# Altium footprint library FLoRa0.0.PcbLib: 42 footprints (part 2 of 3)
Each footprint in its own frame and in the unit in brackets; x right, y up, seen from the top. Pads: shape width x height; smd on the part's side, far side on the other; paste and mask are expansions set on the pad; w line width, h text height; cw(c..) or ccw(c..) is an arc to the next point about the centre after c.
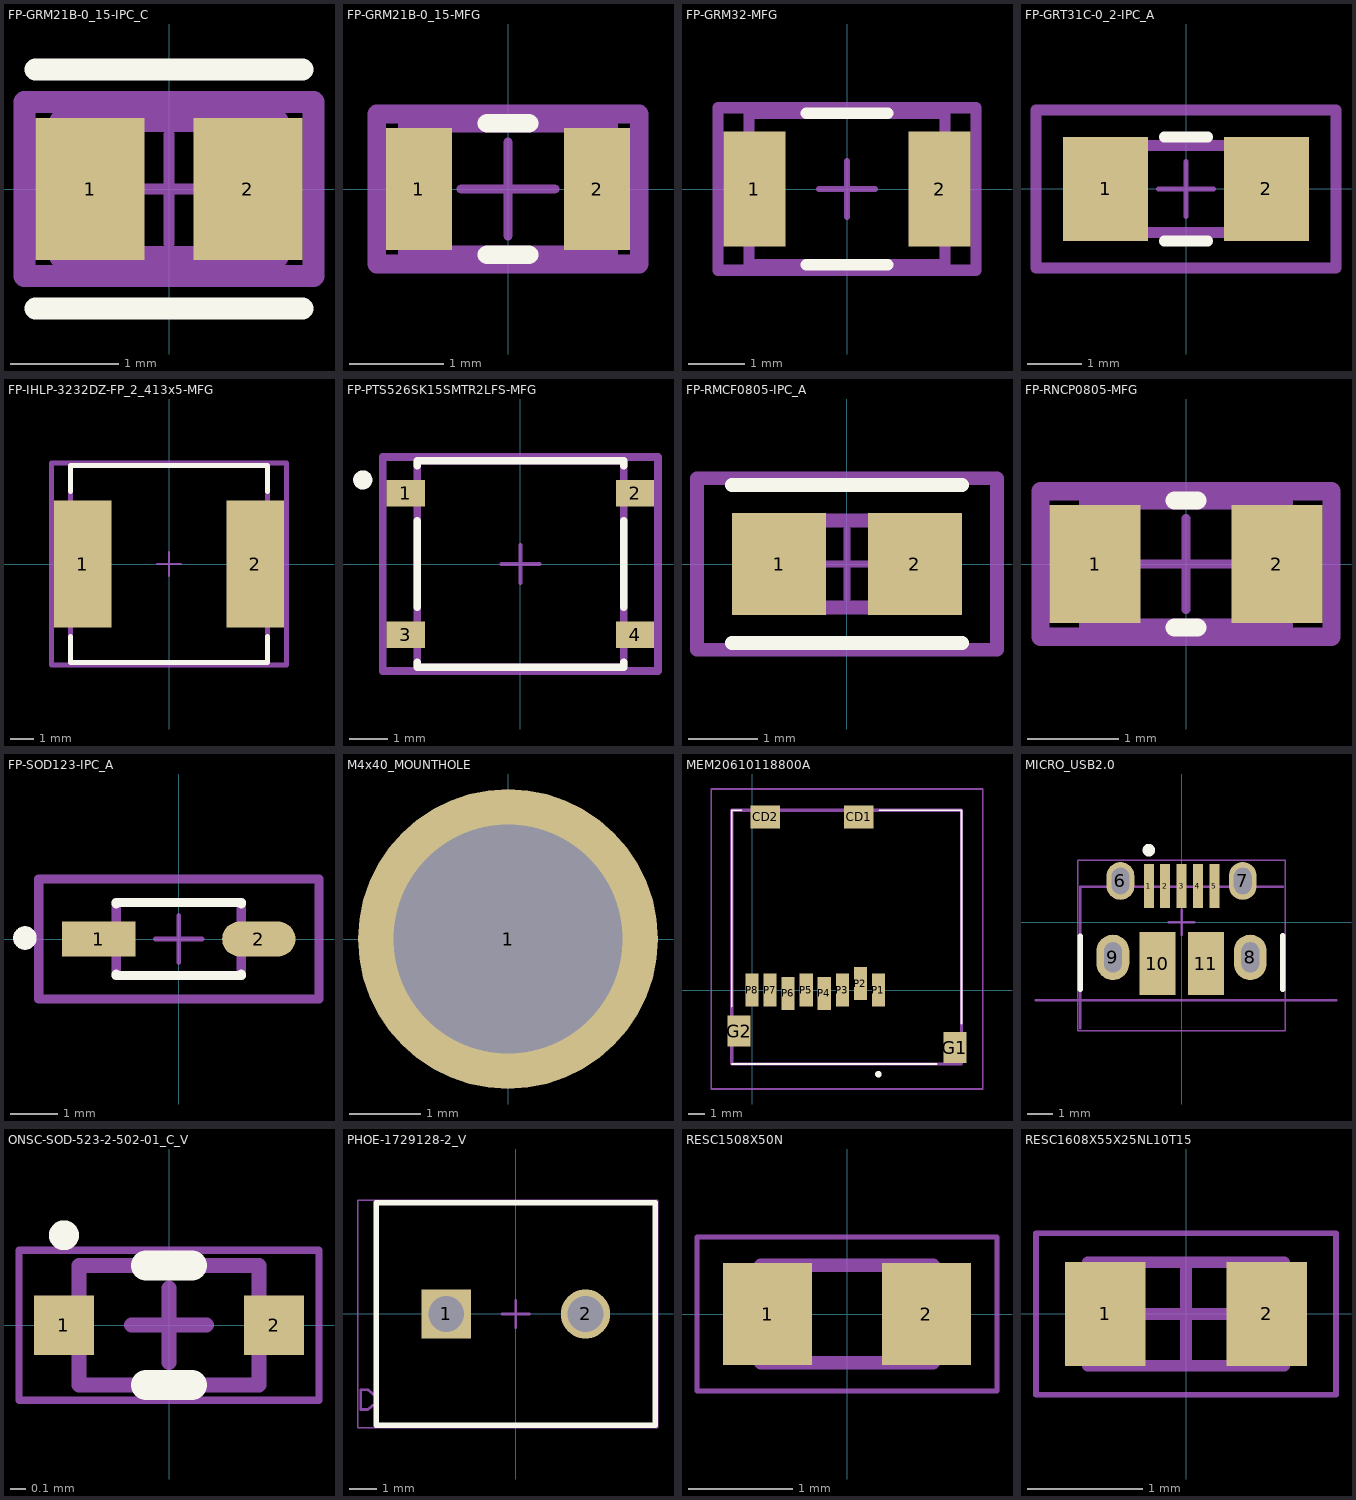
[diagram p1: the footprints below, top view; thin cyan lines are the x and y axes]

## FP-GRM21B-0_15-IPC_C [mm]
pads (2):
  rect 1.006x1.308 smd paste+0 mask+0: 1(-0.726,0) 2(0.726,0)
Top Overlay:
  lines w0.2: -1.229,-1.1 1.229,-1.1 ; -1.229,1.1 1.229,1.1
Top 3D Body:
  lines w0.2: -1,-0.625 -1,0.625 1,0.625 1,-0.625 -1,-0.625
Top Component Center:
  lines w0.1: -0.5,0 0.5,0 ; 0,-0.5 0,0.5
Top Assembly:
  lines w0.2: -1.329,-0.8 -1.329,0.8 1.329,0.8 1.329,-0.8 -1.329,-0.8
  text ".Designator" at 0,0.191 h1.02
Top Courtyard:
  lines w0.2: -1.329,-0.8 -1.329,0.8 1.329,0.8 1.329,-0.8 -1.329,-0.8
3D body "Cap_Murata_GRM21BC81C106KA73L_eec.STEP": height 0.25, standoff 0, extent -1.329,-0.8 1.329,0.8

## FP-GRM21B-0_15-MFG [mm]
pads (2):
  rect 0.7x1.3 smd paste+0 mask+0: 1(-0.95,0) 2(0.95,0)
Top Overlay:
  lines w0.2: -0.225,-0.7 0.225,-0.7 ; -0.225,0.7 0.225,0.7
Top 3D Body:
  lines w0.2: -1.075,-0.7 1.075,-0.7 1.075,0.7 -1.075,0.7 -1.075,-0.7
Top Component Center:
  lines w0.1: -0.5,0 0.5,0 ; 0,-0.5 0,0.5
Top Assembly:
  lines w0.2: -1.4,-0.8 1.4,-0.8 1.4,0.8 -1.4,0.8 -1.4,-0.8
  text ".Designator" at 0,0.191 h1.02
Top Courtyard:
  lines w0.2: -1.4,-0.8 1.4,-0.8 1.4,0.8 -1.4,0.8 -1.4,-0.8
3D body "Cap_Murata_GRM21BC81C106KA73L_eec.STEP": height 0.25, standoff 0, extent -1.4,-0.8 1.4,0.8

## FP-GRM32-MFG [mm]
pads (2):
  rect 1.1x2.05 smd paste+0 mask+0: 1(-1.65,0) 2(1.65,0)
Top Overlay:
  lines w0.2: -0.725,-1.35 0.725,-1.35 ; -0.725,1.35 0.725,1.35
Top 3D Body:
  lines w0.2: -1.75,-1.35 -1.75,1.35 1.75,1.35 1.75,-1.35 -1.75,-1.35
Top Component Center:
  lines w0.1: -0.5,0 0.5,0 ; 0,-0.5 0,0.5
Top Assembly:
  lines w0.2: -2.3,-1.45 -2.3,1.45 2.3,1.45 2.3,-1.45 -2.3,-1.45
Top Courtyard:
  lines w0.2: -2.3,-1.45 -2.3,1.45 2.3,1.45 2.3,-1.45 -2.3,-1.45
3D body "Cap_Murata_GRM32ER71A476ME15L_eec.STEP": height 0.25, standoff 0, extent -2.3,-1.45 2.3,1.45

## FP-GRT31C-0_2-IPC_A [mm]
pads (2):
  rect 1.555x1.906 smd paste+0 mask+0: 1(-1.476,0) 2(1.476,0)
Top Overlay:
  lines w0.2: -0.398,-0.953 0.398,-0.953 ; -0.398,0.953 0.398,0.953
Top 3D Body:
  lines w0.2: -1.6,-0.8 -1.6,0.8 1.6,0.8 1.6,-0.8 -1.6,-0.8
Top Component Center:
  lines w0.1: -0.5,0 0.5,0 ; 0,-0.5 0,0.5
Top Assembly:
  lines w0.2: -2.753,-1.453 -2.753,1.453 2.753,1.453 2.753,-1.453 -2.753,-1.453
  text ".Designator" at 0,0.191 h1.02
Top Courtyard:
  lines w0.2: -2.753,-1.453 -2.753,1.453 2.753,1.453 2.753,-1.453 -2.753,-1.453
3D body "Cap_Murata_GRT31CC80J476KE13L_eec.STEP": height 0.25, standoff 0, extent -2.753,-1.453 2.753,1.453

## FP-IHLP-3232DZ-FP_2_413x5-MFG [mil]
pads (2):
  rect 95x210 smd paste+0 mask+0: 1(-142.5,0) 2(142.5,0)
Top Overlay:
  lines w7.87: -162.52,-119.76 -162.52,-162.52 162.52,-162.52 162.52,-119.76 ; -162.52,119.76 -162.52,162.52 162.52,162.52 162.52,119.76
Top 3D Body:
  lines w7.87: -162.52,-162.52 -162.52,162.52 162.52,162.52 162.52,-162.52 -162.52,-162.52
Top Component Center:
  lines w3.94: -19.68,0 19.68,0 ; 0,-19.68 0,19.68
Top Assembly:
  lines w7.87: -193.94,-166.46 -193.94,166.46 193.94,166.46 193.94,-166.46 -193.94,-166.46
  text ".Designator" at 0,7.51 h40
Top Courtyard:
  lines w7.87: -193.94,-166.46 -193.94,166.46 193.94,166.46 193.94,-166.46 -193.94,-166.46
3D body "Ind_Vishay_IHLP3232DZER4R7M11_eec.STEP": height 10, standoff 0, extent -193.94,-166.46 193.94,166.46

## FP-PTS526SK15SMTR2LFS-MFG [mm]
pads (4):
  rect 1x0.7 smd paste+0 mask+0: 1(-3,1.85) 2(3,1.85) 3(-3,-1.85) 4(3,-1.85)
Top Overlay:
  circle w0.25: c-4.125,2.2 r0.125
  lines w0.2: -2.7,-2.575 -2.7,-2.7 2.7,-2.7 2.7,-2.575 ; -2.7,-1.125 -2.7,1.125 ; -2.7,2.575 -2.7,2.7 2.7,2.7 2.7,2.575 ; 2.7,-1.125 2.7,1.125
Top 3D Body:
  lines w0.2: -2.7,-2.7 2.7,-2.7 2.7,2.7 -2.7,2.7 -2.7,-2.7
Top Component Center:
  lines w0.1: -0.5,0 0.5,0 ; 0,-0.5 0,0.5
Top Assembly:
  lines w0.2: -3.6,-2.8 3.6,-2.8 3.6,2.8 -3.6,2.8 -3.6,-2.8
  text ".Designator" at 0,0.191 h1.02
Top Courtyard:
  lines w0.2: -3.6,-2.8 3.6,-2.8 3.6,2.8 -3.6,2.8 -3.6,-2.8
3D body "Switch_C&K_PTS526SK15SMTR2LFS_eec.STEP": height 0.25, standoff 0, extent -3.6,-2.8 3.6,2.8

## FP-RMCF0805-IPC_A [mm]
pads (2):
  rect 1.355x1.462 smd paste+0 mask+0: 1(-0.976,0) 2(0.976,0)
Top Overlay:
  lines w0.2: -1.653,-1.131 1.653,-1.131 ; -1.653,1.131 1.653,1.131
Top 3D Body:
  lines w0.2: -1,-0.625 -1,0.625 1,0.625 1,-0.625 -1,-0.625
Top Component Center:
  lines w0.1: -0.5,0 0.5,0 ; 0,-0.5 0,0.5
Top Assembly:
  lines w0.2: -2.153,-1.231 -2.153,1.231 2.153,1.231 2.153,-1.231 -2.153,-1.231
  text ".Designator" at 0,0.191 h1.02
Top Courtyard:
  lines w0.2: -2.153,-1.231 -2.153,1.231 2.153,1.231 2.153,-1.231 -2.153,-1.231
3D body "Res_Stackpole_Electronics_RMCF0805JT220K_eec.STEP": height 0.25, standoff 0, extent -2.153,-1.231 2.153,1.231

## FP-RNCP0805-MFG [mm]
pads (2):
  rect 1x1.3 smd paste+0 mask+0: 1(-1,0) 2(1,0)
Top Overlay:
  lines w0.2: -0.125,-0.7 0.125,-0.7 ; -0.125,0.7 0.125,0.7
Top 3D Body:
  lines w0.2: -1.075,-0.7 1.075,-0.7 1.075,0.7 -1.075,0.7 -1.075,-0.7
Top Component Center:
  lines w0.1: -0.5,0 0.5,0 ; 0,-0.5 0,0.5
Top Assembly:
  lines w0.2: -1.6,-0.8 1.6,-0.8 1.6,0.8 -1.6,0.8 -1.6,-0.8
  text ".Designator" at 0,0.191 h1.02
Top Courtyard:
  lines w0.2: -1.6,-0.8 1.6,-0.8 1.6,0.8 -1.6,0.8 -1.6,-0.8
3D body "Res_Stackpole_Electronics_RNCP0805FTD499R_eec.STEP": height 0.25, standoff 0, extent -1.6,-0.8 1.6,0.8

## FP-SOD123-IPC_A [mm]
pads (2):
  rect 1.557x0.742 smd paste+0 mask+0: 1(-1.7,0)
  rrect100% 1.557x0.742 smd paste+0 mask+0: 2(1.7,0)
Top Overlay:
  circle w0.25: c-3.27,0.021 r0.125
  lines w0.2: -1.325,-0.746 -1.325,-0.775 1.325,-0.775 1.325,-0.746 ; -1.325,0.746 -1.325,0.775 1.325,0.775 1.325,0.746
Top 3D Body:
  lines w0.2: -1.325,-0.775 -1.325,0.775 1.325,0.775 1.325,-0.775 -1.325,-0.775
Top Component Center:
  lines w0.1: -0.5,0 0.5,0 ; 0,-0.5 0,0.5
Top Assembly:
  lines w0.2: -2.979,-1.275 -2.979,1.275 2.979,1.275 2.979,-1.275 -2.979,-1.275
  text ".Designator" at 0,0.191 h1.02
Top Courtyard:
  lines w0.2: -2.979,-1.275 -2.979,1.275 2.979,1.275 2.979,-1.275 -2.979,-1.275
3D body "Diode_Diodes_Inc_MMSZ5245B-7-F_eec.STEP": height 0.25, standoff 0, extent -2.979,-1.275 2.979,1.275

## M4x40_MOUNTHOLE [mm] "Mounhole for m4 screw"
pads (1):
  round 4.2 hole 3.2: 1(0,0)

## MEM20610118800A [mm]
pads (12):
  rect 1.8x1.4 smd: CD1(6.51,10.55) CD2(0.81,10.55)
  rect 1.4x1.9 smd: G1(12.36,-3.5) G2(-0.79,-2.5)
  rect 0.8x2 smd: P1(7.7,0) P2(6.6,0.4) P3(5.5,0) P4(4.4,-0.2) P5(3.3,0) P6(2.2,-0.2) P7(1.1,0) P8(0,0)
Top Overlay:
  lines w0.1: -1.24,-4.5 11.26,-4.5 ; -1.24,-1.025 -1.24,10.95 -0.64,10.95 ; 7.76,10.95 12.76,10.95 12.76,-2.032
  lines w0.2: 7.7,-5.225 ccw(c7.7,-5.125) 7.7,-5.025 ccw(c7.7,-5.125) 7.7,-5.225
Top Courtyard:
  lines w0.2: -1.24,-4.5 -1.24,10.95 12.76,10.95 12.76,-4.5 -1.24,-4.5
Mechanical 20:
  lines w0.1: -2.49,-6.025 14.06,-6.025 14.06,12.25 -2.49,12.25 -2.49,-6.025

## MICRO_USB2.0 [mm] "SMD, 5-Leads, Body 8.04x5.62mm, Pitch 0.65 mm"
height 3.24
pads (11):
  rect 0.4x1.75 smd: 1(-1.3,1.435) 2(-0.65,1.435) 3(0,1.435) 4(0.65,1.435) 5(1.3,1.435)
  oval 1.1x1.5 hole 0.7 slot 1.05 at 90 deg: 6(-2.425,1.64) 7(2.425,1.64)
  oval 1.3x1.8 hole 0.7 slot 1.2 at 90 deg: 8(2.725,-1.39) 9(-2.725,-1.39)
  rect 1.425x2.5 smd: 10(-0.962,-1.64) 11(0.962,-1.64)
Top Overlay:
  circle w0.25: c-1.3,2.86 r0.125
  lines w0.2: -4.02,-2.659 -4.02,-0.54 ; 4.013,-2.659 4.013,-0.527
Mechanical 1:
  lines w0.1: -5.775,-3.09 6.125,-3.09
  text "PCB Edge" at 4.425,-2.83 h0.75
Top Assembly:
  lines w0.1: -4.02,-4.21 -4.02,1.41 4.02,1.41
Top Courtyard:
  lines w0.05: -4.12,-4.31 4.12,-4.31 4.12,2.47 -4.12,2.47 -4.12,-4.31
  lines w0.1: -0.5,0 0.5,0 ; 0,-0.5 0,0.5
3D body "10103594.stp": height 2.9, standoff -0.7, extent -4.02,-4.149 4.02,1.884

## ONSC-SOD-523-2-502-01_C_V [mm] "SOD, 2-Leads, Body 1.2x0.8mm"
height 0.7
pads (2):
  rect 0.4x0.4 smd: 1(-0.7,0) 2(0.7,0)
Top Overlay:
  circle w0.1: c-0.7,0.6 r0.05
  lines w0.2: -0.154,-0.4 0.154,-0.4 ; -0.154,0.4 0.154,0.4
Top Assembly:
  lines w0.1: -0.6,-0.4 0.6,-0.4 0.6,0.4 -0.6,0.4 -0.6,-0.4
Top Courtyard:
  lines w0.05: -1,-0.5 1,-0.5 1,0.5 -1,0.5 -1,-0.5
  lines w0.1: -0.25,0 0.25,0 ; 0,-0.25 0,0.25
3D body: height 0.7, standoff 0, extent -0.6,-0.4 0.6,0.4

## PHOE-1729128-2_V [mm] "Receptacle, 2-Leads, Body 8.1x10.16mm, Pitch 5.08mm"
height 10.013
pads (2):
  rect 1.8x1.8 hole 1.3: 1(-2.54,0)
  round 1.8 hole 1.3: 2(2.54,0)
Top Overlay:
  lines w0.2: -5.08,-4.05 -5.08,4.05 5.08,4.05 5.08,-4.05 -5.08,-4.05
Top Assembly:
  lines w0.1: -5.08,-3.327 -5.209,-3.327 -5.387,-3.477 -5.65,-3.477 -5.65,-2.763 ; -5.08,-2.913 -5.209,-2.913 -5.387,-2.763 -5.65,-2.763 ; -5.65,-2.763 -5.65,-2.763 ; -5.08,-4.05 -5.08,4.05 5.08,4.05 5.08,-4.05 -5.08,-4.05
Top Courtyard:
  lines w0.05: -5.75,-4.15 -5.75,4.15 5.18,4.15 5.18,-4.15 -5.75,-4.15
  lines w0.1: -0.5,0 0.5,0 ; 0,-0.5 0,0.5
3D body "1729128.stp": height 10.01, standoff -3.49, extent -5.65,-4.05 5.08,4.05

## RESC1508X50N [mm]
pads (2):
  rect 0.86x0.98 smd: 1(-0.765,0) 2(0.765,0)
Top Assembly:
  lines w0.127: -0.83,-0.47 -0.83,0.47 0.83,0.47 0.83,-0.47 -0.83,-0.47
Top Courtyard:
  lines w0.05: -1.444,-0.74 -1.444,0.74 1.444,0.74 1.444,-0.74 -1.444,-0.74
3D body "step_temp.STEP": height 0.55, standoff 0, extent -0.775,-0.425 0.775,0.425

## RESC1608X55X25NL10T15 [mm] "Chip Resistor, 2-Leads, Body 1.60x0.80mm, IPC Medium Density"
height 0.55
pads (2):
  rect 0.7x0.9 smd: 1(-0.7,0) 2(0.7,0)
Top Assembly:
  lines w0.1: -0.85,-0.45 0.85,-0.45 0.85,0.45 -0.85,0.45 -0.85,-0.45
Top Courtyard:
  lines w0.05: -1.3,-0.7 1.3,-0.7 1.3,0.7 -1.3,0.7 -1.3,-0.7
  lines w0.1: -0.45,0 0.45,0 ; 0,-0.45 0,0.45
3D body: height 0.55, standoff 0, extent 0.6,-0.45 0.85,0.45
3D body: height 0.55, standoff 0, extent -0.85,-0.45 -0.6,0.45
3D body: height 0.55, standoff 0, extent -0.6,-0.45 0.6,0.45